# Altium schematic symbol library Jumper_Header3.Schlib: 1 symbol
Pins are listed as number, name and electrical type; pins without a type are passive.

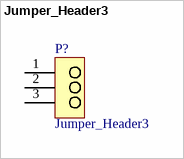
[diagram p0: symbol Jumper_Header3]

## Jumper_Header3
designator P?
Header, 3-Pin
pins: 1, 2, 3